# Altium schematic symbol library RTC.SchLib: 2 symbols
Pins are listed as number, name and electrical type; pins without a type are passive.

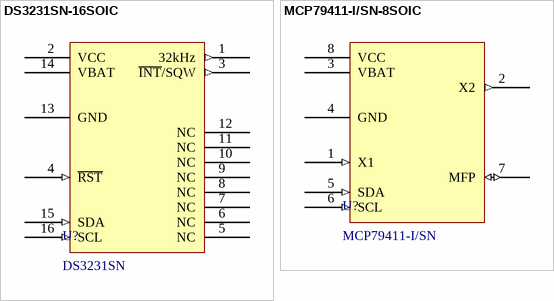
[diagram p0: symbols DS3231SN-16SOIC to MCP79411-I/SN-8SOIC]

## DS3231SN-16SOIC
designator U?, comment DS3231SN
IC RTC CLK/CALENDAR I2C 16SOIC; Manufacturer: Analog Devices Inc./Maxim Integrated; Manufacturer Standard Lead Time: 30 Weeks; Supply Voltage: 2.3 V - 5.5 V; Operating Supply Current: 110 - 170 (µA); RTC Bus Interface: I2C, Serial; Time Format: HH:MM:SS (12 hr, 24 hr); IC Name: DS3231SN; Mounting Style: SMD/SMT; Package: 16SOIC; ComponentLink1Description: Datasheet link; ComponentLink1URL: https://www.analog.com/media/en/technical-documentation/data-sheets/DS3231.pdf; ComponentLink2Description: Supplier 1 URL; ComponentLink2URL: https://www.mouser.com/ProductDetail/Analog-Devices-Maxim-Integrated/DS3231SN?qs=ffX8NcjNb2RmKAb9wAk9Ug%3D%3D; ComponentLink3Description: Supplier 2 URL; ComponentLink3URL: https://www.digikey.com/en/products/detail/analog-devices-inc-maxim-integrated/DS3231SN/1197576; ComponentLink4Description: Supplier 3 URL; ComponentLink4URL: https://www.thegioiic.com/ds3231sn-ic-rtc-clock-calendar-16-soic; RTC Memory Size: N/A; Supplier 1 Name: Mouser; Supplier 1 SN: 700-DS3231SN-; Supplier 1 URL: https://www.mouser.com/ProductDetail/Analog-Devices-Maxim-Integrated/DS3231SN?qs=ffX8NcjNb2RmKAb9wAk9Ug%3D%3D; Supplier 2 Name: Digi-Key; Supplier 2 SN: DS3231SN#-ND; Supplier 2 URL: https://www.digikey.com/en/products/detail/analog-devices-inc-maxim-integrated/DS3231SN/1197576; Supplier 3 Name: thegioiic; Supplier 3 SN: N/A; Supplier 3 URL: https://www.thegioiic.com/ds3231sn-ic-rtc-clock-calendar-16-soic; Value: DS3231SN
footprint DS3231SN-16SOIC (SOIC, 16-Leads, Body 11.55x7.50mm, Pitch 1.27mm, IPC Medium Density)
pins: 1 32kHz (out), 2 VCC (power), 3 ~{INT}/SQW (out), 4 ~{RST} (in), 5 NC, 6 NC, 7 NC, 8 NC, 9 NC, 10 NC, 11 NC, 12 NC, 13 GND (power), 14 VBAT (power), 15 SDA (in), 16 SCL (in)

## MCP79411-I/SN-8SOIC
designator U?, comment MCP79411-I/SN
IC RTC CLK/CALENDAR I2C 8SOIC; Manufacturer: Microchip Technology; IC Name: W25Q64FVSSIG; RTC Memory Size: 64B, 1Kb; Supply Voltage: 1.8 V - 5.5 V; Operating Supply Current: 1 uA; RTC Bus Interface: I2C, Serial; Time Format: HH:MM:SS (12 hr, 24 hr); Mounting Style: SMD/SMT; Package: 8SOIC; ComponentLink1Description: Datasheet link; ComponentLink1URL: https://ww1.microchip.com/downloads/en/DeviceDoc/MCP79410-MCP79411-MCP79412-Battery-Backed%20I2C-RTCC-20002266J.pdf; ComponentLink2Description: Supplier 1 URL; ComponentLink2URL: https://www.mouser.com/ProductDetail/Microchip-Technology/MCP79411-I-SN?qs=ggQiQSXuoRVyEhJRVDc7Dw%3D%3D; ComponentLink3Description: Supplier 2 URL; ComponentLink3URL: https://www.digikey.com/en/products/detail/microchip-technology/MCP79411-I-SN/2601461?s=N4IgTCBcDaIKwHYCcBaAsgYQArICwEZ8BJAZQDkQBdAXyA; ComponentLink4Description: Supplier 3 URL; ComponentLink4URL: N/A; Supplier 1 Name: Mouser; Supplier 1 SN: 579-MCP79411ISN; Supplier 1 URL: https://www.mouser.com/ProductDetail/Microchip-Technology/MCP79411-I-SN?qs=ggQiQSXuoRVyEhJRVDc7Dw%3D%3D; Supplier 2 Name: Digi-Key; Supplier 2 SN: MCP79411-I/SN-ND; Supplier 2 URL: https://www.digikey.com/en/products/detail/microchip-technology/MCP79411-I-SN/2601461?s=N4IgTCBcDaIKwHYCcBaAsgYQArICwEZ8BJAZQDkQBdAXyA; Supplier 3 Name: thegioiic; Supplier 3 SN: N/A; Supplier 3 URL: N/A; Value: MCP79411-I/SN
footprint MCP79411-I/SN-8SOIC (SOIC, 8-Leads, Body 4.90x3.90mm, Pitch 1.27mm, IPC Medium Density)
pins: 1 X1 (in) "Quartz Crystal Input, External Oscillator Input", 2 X2 (out) "Quartz Crystal Output", 3 VBAT (power) "Battery Backup Supply Input", 4 GND (power) "Ground", 5 SDA (in) "Bidirectional Serial Data (I2C)", 6 SCL (in) "Serial Clock (I2C)", 7 MFP (io) "Multifunction Pin", 8 VCC (power) "Primary Power Supply"